# EAGLE library part 6X2005IN (library 6X2005IN)
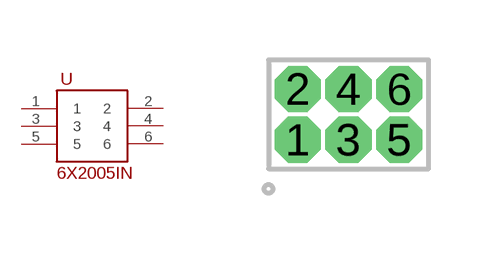
[diagram p0: symbol with the pads of 6X2005IN; footprint 6X2005IN]

Designator prefix -

## 6X2005IN  [6X2005IN]
1  1
2  2
3  3
4  4
5  5
6  6

## Footprint 6X2005IN (pad centres in mm)
drill 0.65 pad 0.813 octagon: 1 -1.27,0; 2 -1.27,1.27; 3 0,0; 4 0,1.27; 5 1.27,0; 6 1.27,1.27